# Altium schematic symbol library Schlib1.SchLib: 2 symbols
Pins are listed as number, name and electrical type; pins without a type are passive.

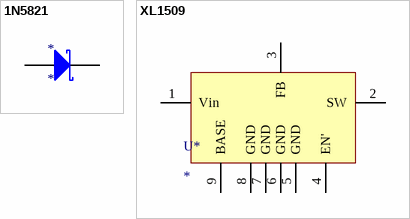
[diagram p0: symbols 1N5821 to XL1509]

## 1N5821
designator *
footprint DO41
pins: 1 A, 2 K

## XL1509
designator U*
footprint ESOP8_M (5*6*1.8mm（长宽高）淘宝ID:黄晶宝石)
pins: 1 Vin, 2 SW, 3 FB, 4 EN', 5 GND, 6 GND, 7 GND, 8 GND, 9 BASE